# EAGLE library part STMPE811 (library ComputeCalculator)
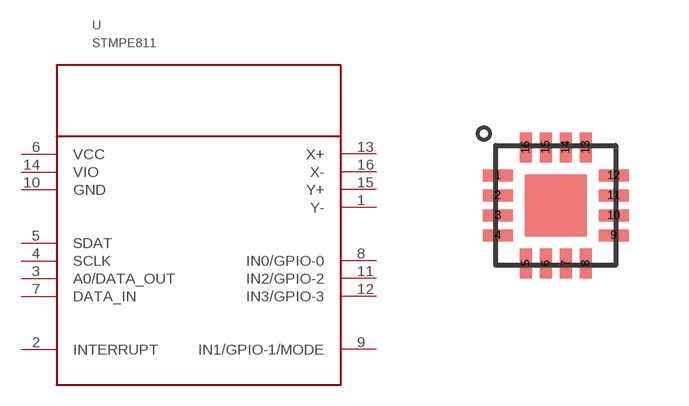
[diagram p1: symbol with the pads of QFN16L; footprint QFN16L]

Designator prefix -

## STMPE811  [QFN16L]
1  Y-
2  INTERRUPT
3  A0/DATA_OUT
4  SCLK
5  SDAT
6  VCC
7  DATA_IN
8  IN0/GPIO-0
9  IN1/GPIO-1/MODE
10  GND
11  IN2/GPIO-2
12  IN3/GPIO-3
13  X+
14  VIO
15  Y+
16  X-

## Footprint QFN16L (pad centres in mm)
smd 0.75 x 0.3: 1 -1.45,0.75; 2 -1.45,0.25; 3 -1.45,-0.25; 4 -1.45,-0.75; 9 1.45,-0.75; 10 1.45,-0.25; 11 1.45,0.25; 12 1.45,0.75
smd 0.3 x 0.75: 5 -0.75,-1.45; 6 -0.25,-1.45; 7 0.25,-1.45; 8 0.75,-1.45; 13 0.75,1.45; 14 0.25,1.45; 15 -0.25,1.45; 16 -0.75,1.45